# Altium footprint library Trans_pcb.PcbLib: 72 footprints (part 2 of 5)
Each footprint in its own frame and in the unit in brackets; x right, y up, seen from the top. Pads: shape width x height; smd on the part's side, far side on the other; paste and mask are expansions set on the pad; w line width, h text height; cw(c..) or ccw(c..) is an arc to the next point about the centre after c.
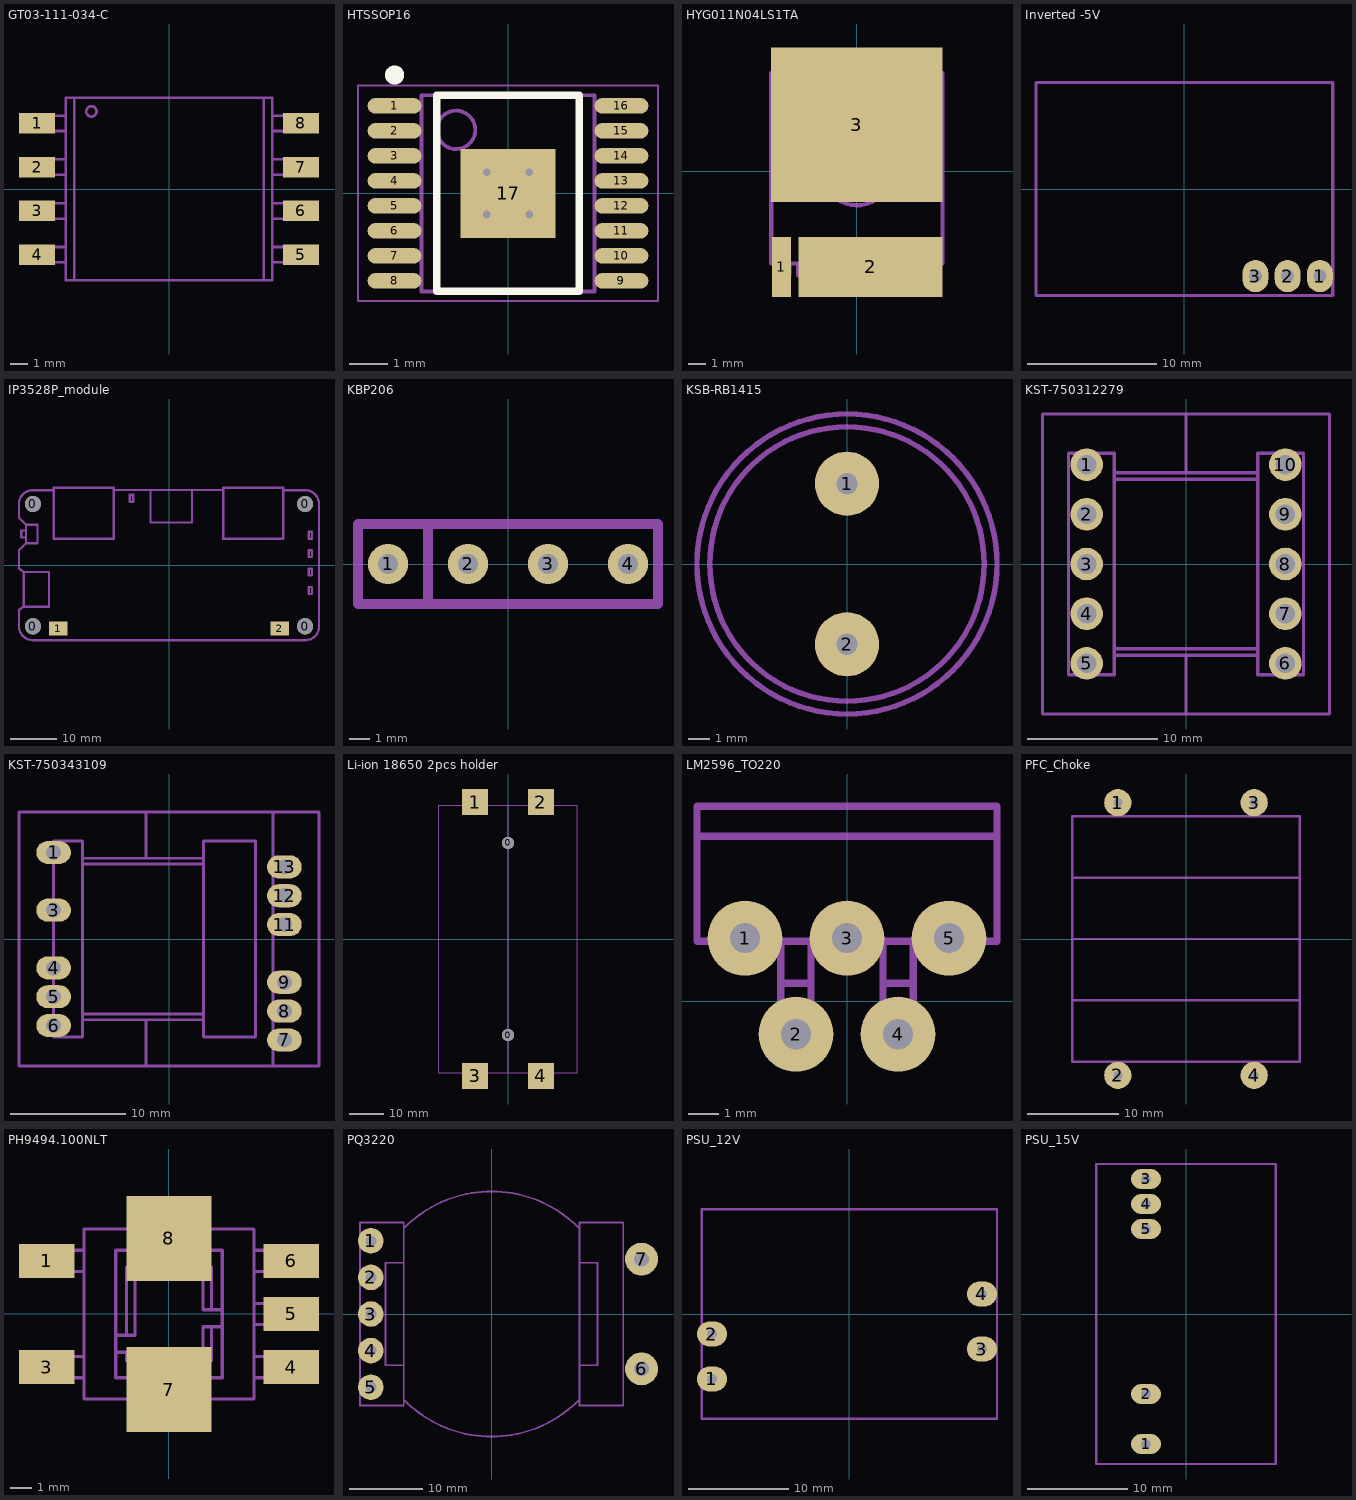
[diagram p1: the footprints below, top view; thin cyan lines are the x and y axes]

## GT03-111-034-C [mm]
height 6.8
pads (8):
  rect 2.1x1.2 smd: 1(-7.65,3.81) 2(-7.65,1.27) 3(-7.65,-1.27) 4(-7.65,-3.81) 5(7.65,-3.81) 6(7.65,-1.27) 7(7.65,1.27) 8(7.65,3.81)
Mechanical 13:
  circle w0.15: c-4.5,4.5 r0.3
  lines w0.15: -7.239,-4.255 -7.239,-3.365 ; -7.239,-1.714 -7.239,-0.826 ; -7.239,0.826 -7.239,1.714 ; -7.239,3.365 -7.239,4.255 ; -6.032,-4.255 -7.938,-4.255 -7.938,-3.365 -6,-3.365 ; -6.032,-1.714 -7.938,-1.714 -7.938,-0.826 -6,-0.826 ; -6.032,0.826 -7.938,0.826 -7.938,1.714 -6,1.714 ; -6.032,3.365 -7.938,3.365 -7.938,4.255 -6,4.255 ; -5.5,-5.3 -5.5,5.3 ; 5.5,-5.3 5.5,5.3 ; 6,-4.255 7.938,-4.255 7.938,-3.365 6.032,-3.365 ; 6,-1.714 7.938,-1.714 7.938,-0.826 6.032,-0.826 ; 6,0.826 7.938,0.826 7.938,1.714 6.032,1.714 ; 6,3.365 7.938,3.365 7.938,4.255 6.032,4.255 ; 7.239,-4.255 7.239,-3.365 ; 7.239,-1.714 7.239,-0.826 ; 7.239,0.826 7.239,1.714 ; 7.239,3.365 7.239,4.255 ; -6,-5.3 6,-5.3 6,5.3 -6,5.3 -6,-5.3

## HTSSOP16 [mm]
height 1.2
pads (17):
  oval 1.4x0.4 smd: 1(-2.95,2.275) 2(-2.95,1.625) 3(-2.95,0.975) 4(-2.95,0.325) 5(-2.95,-0.325) 6(-2.95,-0.975) 7(-2.95,-1.625) 8(-2.95,-2.275) 9(2.95,-2.275) 10(2.95,-1.625) 11(2.95,-0.975) 12(2.95,-0.325) 13(2.95,0.325) 14(2.95,0.975) 15(2.95,1.625) 16(2.95,2.275)
  rect 2.46x2.31 smd: 17(0,0)
via 0.55,-0.55 diameter 0.5 hole 0.2
via -0.55,-0.55 diameter 0.5 hole 0.2
via 0.55,0.55 diameter 0.5 hole 0.2
via -0.55,0.55 diameter 0.5 hole 0.2
Top Overlay:
  circle w0.25: c-2.95,3.075 r0.125
  lines w0.2: -1.85,-2.55 1.85,-2.55 1.85,2.55 -1.85,2.55 -1.85,-2.55
Mechanical 13:
  circle w0.1: c-1.35,1.65 r0.5
  lines w0.1: -2.25,-2.55 2.25,-2.55 2.25,2.55 -2.25,2.55 -2.25,-2.55
Mechanical 15:
  lines w0.05: -3.9,-2.8 3.9,-2.8 3.9,2.8 -3.9,2.8 -3.9,-2.8
  lines w0.1: -0.5,0 0.5,0 ; 0,-0.5 0,0.5
3D body: height 1.2, standoff 0.1, extent -2.25,-2.55 2.25,2.55

## HYG011N04LS1TA [mm]
pads (3):
  rect 1.1x3.5 smd: 1(-4.4,-5.6)
  rect 8.4x3.5 smd: 2(0.8,-5.6)
  rect 10x9 smd: 3(0,2.7)
Mechanical 13:
  circle w0.25: c0,0 r2
  lines w0.25: -5,-1.2 -4.2,-1.2 -4.2,2.2 -5,2.2 ; -4.637,-5.5 -4.637,-6.1 -3.937,-6.1 -3.937,-5.5 ; -3.413,-5.5 -3.413,-6.1 -2.712,-6.1 -2.712,-5.5 ; -2.187,-5.5 -2.187,-6.1 -1.487,-6.1 -1.487,-5.5 ; -0.962,-5.5 -0.962,-6.1 -0.262,-6.1 -0.262,-5.5 ; 0.263,-5.5 0.263,-6.1 0.963,-6.1 0.963,-5.5 ; 1.488,-5.5 1.488,-6.1 2.188,-6.1 2.188,-5.5 ; 2.713,-5.5 2.713,-6.1 3.413,-6.1 3.413,-5.5 ; 3.938,-5.5 3.938,-6.1 4.638,-6.1 4.638,-5.5 ; 5,-1.2 4.2,-1.2 4.2,2.2 5,2.2 ; -5,5 -5,-5.4 5,-5.4 5,5 ; -5,5 5,5 ; -5,5 -5,5.7 5,5.7 5,5

## Inverted -5V [mm]
pads (3):
  oval 2x2.5 hole 1: 1(10.5,-6.75) 2(8,-6.75) 3(5.5,-6.75)
Mechanical 13:
  lines w0.25: -11.5,-8.25 11.5,-8.25 11.5,8.25 -11.5,8.25 -11.5,-8.25

## IP3528P_module [mm]
pads (6):
  round 3.5 hole 3.5 unplated: 0(-29.5,-13.25) 0(-29.5,13.25) 0(29.5,-13.25) 0(29.5,13.25)
  rect 4x3 smd: 1(-24,-13.75) 2(24,-13.75)
Mechanical 13:
  lines w0.5: -31,6 -32,6 -32,7.5 -31,7.5 ; -25,16.25 -29.523,16.252 ccw(c-29.523,13.274) -32.5,13.274 -32.5,10.25 -31,8.75 ; -12,16.27 11.75,16.295 ; -4,16.25 -4,9.25 5,9.25 5,16.25 ; 24.75,16.25 29.5,16.244 cw(c29.5,13.25) 32.494,13.25 ; 32.494,13.315 32.5,-13.315 cw(c29.565,-13.315) 29.565,-16.25 -29.525,-16.25 cw(c-29.525,-13.275) -32.5,-13.275 -32.5,-9.75 -31.5,-9 ; -31.5,-9 -31.5,-1.5 ; -31.5,-9 -26,-9 -26,-1.5 -31.5,-1.5 ; -31.5,-1.5 -32.5,-0.75 -32.5,3.25 -31,4.75 ; -31,4.75 -31,8.75 ; -31,4.75 -28.5,4.75 -28.5,8.75 -31,8.75 ; -25,5.75 -25,16.75 -12,16.75 -12,5.75 -25,5.75 ; -8.5,13.75 -8.5,15.25 -7.75,15.25 -7.75,13.75 -8.5,13.75 ; 11.75,5.75 11.75,16.75 24.75,16.75 24.75,5.75 11.75,5.75 ; 30.25,-6.25 30.25,-4.75 31,-4.75 31,-6.25 30.25,-6.25 ; 30.25,-2.25 30.25,-0.75 31,-0.75 31,-2.25 30.25,-2.25 ; 30.25,1.75 30.25,3.25 31,3.25 31,1.75 30.25,1.75 ; 30.25,5.75 30.25,7.25 31,7.25 31,5.75 30.25,5.75

## KBP206 [mm]
height 14
pads (4):
  round 2 hole 1: 1(-6,0) 2(-2,0) 3(2,0) 4(6,0)
Mechanical 13:
  lines w0.5: -4,-2 -4,2 ; -7.5,-2 -7.5,2 7.5,2 7.5,-2 -7.5,-2

## KSB-RB1415 [mm]
height 15
pads (2):
  round 3 hole 1 unplated: 1(0,3.75) 2(0,-3.75)
Mechanical 13:
  circle w0.254: c0,0 r7
  circle w0.254: c0,0 r6.403

## KST-750312279 [mm]
height 17.5
pads (10):
  round 2.5 hole 1.5 unplated: 1(-7.62,7.62) 2(-7.62,3.81) 3(-7.62,0) 4(-7.62,-3.81) 5(-7.62,-7.62) 6(7.62,-7.62) 7(7.62,-3.81) 8(7.62,0) 9(7.62,3.81) 10(7.62,7.62)
Mechanical 13:
  lines w0.25: -5.5,-6.5 5.5,-6.5 ; -5.5,6.5 5.5,6.5 ; 0,-11.5 0,-7 ; 0,7 0,11.5 ; -5.5,-7 5.5,-7 ; -5.5,-7 -5.5,7 ; -5.5,-7 -5.5,-8.5 -9,-8.5 -9,8.5 -5.5,8.5 -5.5,7 ; -5.5,7 5.5,7 ; 5.5,-7 5.5,7 ; 5.5,-7 5.5,-8.5 9,-8.5 9,8.5 5.5,8.5 5.5,7 ; -11,-11.5 -11,11.5 11,11.5 11,-11.5 -11,-11.5

## KST-750343109 [mm]
height 16
pads (11):
  oval 3x2 hole 1.3 unplated: 1(-10,7.5) 3(-10,2.5) 4(-10,-2.5) 5(-10,-5) 6(-10,-7.5) 7(10,-8.75) 8(10,-6.25) 9(10,-3.75) 11(10,1.25) 12(10,3.75) 13(10,6.25)
Mechanical 13:
  lines w0.25: -7.5,-6.5 3,-6.5 ; -7.5,6.5 3,6.5 ; -2,-11 -2,-7 ; -2,7 -2,11 ; 9,-11 9,11 ; -7.5,-7 -7.5,7 ; -7.5,-7 3,-7 ; -7.5,-7 -7.5,-8.5 -10,-8.5 -10,8.5 -7.5,8.5 -7.5,7 ; -7.5,7 3,7 ; 3,-7 3,7 ; 3,-7 3,-8.5 3.5,-8.5 7.5,-8.5 7.5,8.5 3,8.5 3,7 ; -13,-11 -13,11 13,11 13,-11 -13,-11

## Li-ion 18650 2pcs holder [mm]
pads (6):
  round 3.5 hole 3.5 unplated: 0(0,-27.7) 0(0,27.7)
  rect 7.5x7.5 smd: 1(-9.5,39.5) 2(9.5,39.5) 3(-9.5,-39.5) 4(9.5,-39.5)
Mechanical 13:
  lines w0.25: 0,-38.5 0,38.5 ; -20,-38.5 20,-38.5 20,38.5 -20,38.5 -20,-38.5

## LM2596_TO220 [mm]
pads (5):
  round 2.5 hole 1: 1(-3.4,2.1) 2(-1.7,-1.1) 3(0,2.1) 4(1.7,-1.1) 5(3.4,2.1)
Mechanical 1:
  lines w0.25: -3.9,1.9 -3.9,1.5 -2.9,1.5 -2.9,2 ; -0.5,1.9 -0.5,1.5 0.5,1.5 0.5,2 ; 2.9,1.9 2.9,1.5 3.9,1.5 3.9,2
Mechanical 13:
  lines w0.25: -2.2,0.6 -1.2,0.6 ; -2.2,2 -2.2,-1.5 -1.2,-1.5 -1.2,2 ; 1.2,0.6 2.2,0.6 ; 1.2,2 1.2,-1.5 2.2,-1.5 2.2,2 ; -5,6.5 -5,5.5 5,5.5 5,6.5 ; -5,6.5 5,6.5 ; -5,6.5 -5,2 5,2 5,6.5

## PFC_Choke [mm]
height 25
pads (4):
  round 3 hole 1: 1(-7.5,15) 2(-7.5,-15) 3(7.5,15) 4(7.5,-15)
Mechanical 13:
  lines w0.25: -12.5,-6.75 12.5,-6.75 ; -12.5,0 12.5,0 ; -12.5,6.75 12.5,6.75 ; -7.5,-15 -7.5,-13.5 ; -7.5,13.5 -7.5,15 ; 7.5,-15 7.5,-13.5 ; 7.5,13.5 7.5,15 ; -12.5,-13.5 -12.5,13.5 12.5,13.5 12.5,-13.5 -12.5,-13.5

## PH9494.100NLT [mm]
height 7.2
pads (7):
  rect 2.6x1.6 smd: 1(-5.75,2.5) 3(-5.75,-2.5) 4(5.75,-2.5) 5(5.75,0) 6(5.75,2.5)
  rect 4x4 smd: 7(0,-3.55) 8(0,3.55)
Mechanical 13:
  lines w0.15: -5.5,-3 -5.5,-2 ; -5.5,2 -5.5,3 ; -4,-3 -6.5,-3 -6.5,-2 -4,-2 ; -4,2 -6.5,2 -6.5,3 -4,3 ; -2,-1.9 -2,-2.2 -1.6,-2.2 ; -2,-1 -2,2.2 -1.6,2.2 ; -1.6,-4 -1.6,-4.8 1.6,-4.8 1.6,-4 ; -1.6,-3 -1.6,-1.8 -2.5,-1.8 -2.5,-1.5 -2.5,-1 -1.6,-1 -1.6,3 ; -1.6,4 -1.6,4.8 1.6,4.8 1.6,4 ; 0,-4 0,-3 ; 0,3 0,4 ; 1.6,-3 1.6,-0.6 2.5,-0.6 2.5,0.2 1.6,0.2 1.6,3 ; 1.6,-2.2 2,-2.2 2,-0.6 ; 1.6,2.2 2,2.2 2,0.2 ; 4,-3 6.5,-3 6.5,-2 4,-2 ; 4,-0.5 6.5,-0.5 6.5,0.5 4,0.5 ; 4,2 6.5,2 6.5,3 4,3 ; 5.5,-3 5.5,-2 ; 5.5,-0.5 5.5,0.5 ; 5.5,2 5.5,3 ; -4,-4 -4,4 4,4 4,-4 -4,-4 ; -2.5,-3 -2.5,3 2.5,3 2.5,-3 -2.5,-3

## PQ3220 [mm]
height 20
pads (7):
  round 3.5 hole 1.5: 1(-16.5,10) 2(-16.5,5) 3(-16.5,0) 4(-16.5,-5) 5(-16.5,-10)
  round 4.5 hole 2 unplated mask+0.102: 6(20.5,-7.5) 7(20.5,7.5)
Mechanical 13:
  lines w0.254: -12,-11.693 -12,0 -12,11.691 ; -12,-11.5 -12,-12.5 -18,-12.5 -18,12.5 -12,12.5 -12,11 ; -12,-7 -14.5,-7 -14.5,7 -12,7 ; -11.996,11.691 cw(c0,0) 11.993,11.693 ; -11.993,-11.693 ccw(c0,0) 11.996,-11.69 ; 12,-7 14.5,-7 14.5,7 12,7 ; 12,11.5 12,12.5 18,12.5 18,-12.5 12,-12.5 12,-11.693 12,11.693

## PSU_12V [mm]
height 14
pads (4):
  oval 3x2.5 hole 1: 1(-13.75,-6.5) 2(-13.75,-2) 3(13.25,-3.5) 4(13.25,2)
Mechanical 13:
  lines w0.25: -14.75,-10.5 -14.75,10.5 14.75,10.5 14.75,-10.5 -14.75,-10.5

## PSU_15V [mm]
height 25
pads (5):
  oval 3x2 hole 1: 1(-4,-13) 2(-4,-8) 3(-4,13.5) 4(-4,11) 5(-4,8.5)
Mechanical 13:
  lines w0.25: -9,-15 -9,15 9,15 9,-15 -9,-15